# Altium footprint library nec-lqfp100-pack.PCBLIB: 1 footprints
Each footprint in its own frame and in the unit in brackets; x right, y up, seen from the top. Pads: shape width x height; smd on the part's side, far side on the other; paste and mask are expansions set on the pad; w line width, h text height; cw(c..) or ccw(c..) is an arc to the next point about the centre after c.
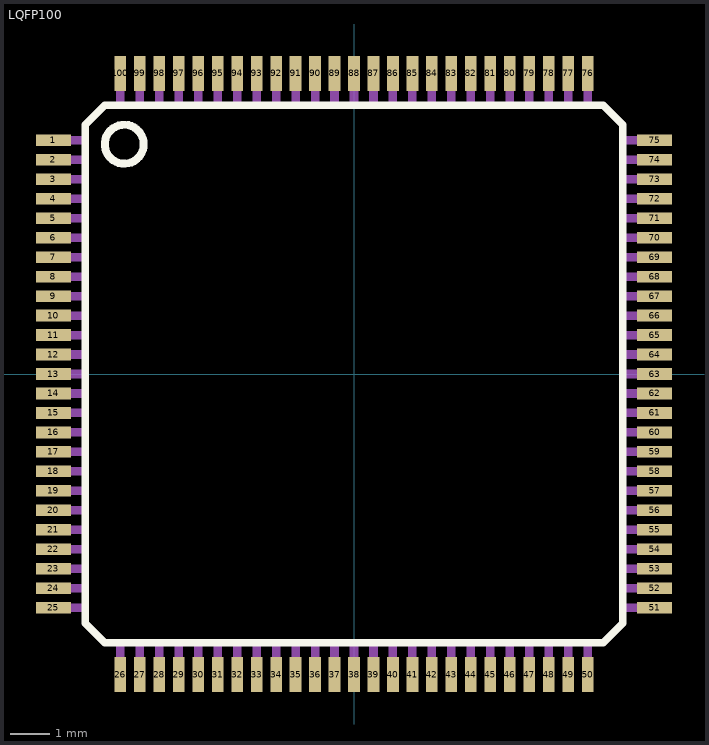
[diagram p0: the footprint, top view; thin cyan lines are the x and y axes]

## LQFP100 [mm]
pads (100):
  rect 0.9x0.3 smd: 1(-7.72,6) 2(-7.72,5.5) 3(-7.72,5) 4(-7.72,4.5) 5(-7.72,4) 6(-7.72,3.5) 7(-7.72,3) 8(-7.72,2.5) 9(-7.72,2) 10(-7.72,1.5) 11(-7.72,1) 12(-7.72,0.5) 13(-7.72,0) 14(-7.72,-0.5) 15(-7.72,-1) 16(-7.72,-1.5) 17(-7.72,-2) 18(-7.72,-2.5) 19(-7.72,-3) 20(-7.72,-3.5) 21(-7.72,-4) 22(-7.72,-4.5) 23(-7.72,-5) 24(-7.72,-5.5) 25(-7.72,-6) 51(7.72,-6) 52(7.72,-5.5) 53(7.72,-5) 54(7.72,-4.5) 55(7.72,-4) 56(7.72,-3.5) 57(7.72,-3) 58(7.72,-2.5) 59(7.72,-2) 60(7.72,-1.5) 61(7.72,-1) 62(7.72,-0.5) 63(7.72,0) 64(7.72,0.5) 65(7.72,1) 66(7.72,1.5) 67(7.72,2) 68(7.72,2.5) 69(7.72,3) 70(7.72,3.5) 71(7.72,4) 72(7.72,4.5) 73(7.72,5) 74(7.72,5.5) 75(7.72,6)
  rect 0.3x0.9 smd: 26(-6,-7.72) 27(-5.5,-7.72) 28(-5,-7.72) 29(-4.5,-7.72) 30(-4,-7.72) 31(-3.5,-7.72) 32(-3,-7.72) 33(-2.5,-7.72) 34(-2,-7.72) 35(-1.5,-7.72) 36(-1,-7.72) 37(-0.5,-7.72) 38(0,-7.72) 39(0.5,-7.72) 40(1,-7.72) 41(1.5,-7.72) 42(2,-7.72) 43(2.5,-7.72) 44(3,-7.72) 45(3.5,-7.72) 46(4,-7.72) 47(4.5,-7.72) 48(5,-7.72) 49(5.5,-7.72) 50(6,-7.72) 76(6,7.72) 77(5.5,7.72) 78(5,7.72) 79(4.5,7.72) 80(4,7.72) 81(3.5,7.72) 82(3,7.72) 83(2.5,7.72) 84(2,7.72) 85(1.5,7.72) 86(1,7.72) 87(0.5,7.72) 88(0,7.72) 89(-0.5,7.72) 90(-1,7.72) 91(-1.5,7.72) 92(-2,7.72) 93(-2.5,7.72) 94(-3,7.72) 95(-3.5,7.72) 96(-4,7.72) 97(-4.5,7.72) 98(-5,7.72) 99(-5.5,7.72) 100(-6,7.72)
Top Overlay:
  circle w0.203: c-5.9,5.9 r0.5
  lines w0.203: -6.9,-6.4 -6.9,6.4 -6.4,6.9 6.4,6.9 6.9,6.4 6.9,-6.4 6.4,-6.9 -6.4,-6.9 -6.9,-6.4
Mechanical 16:
  rectangle: -8.03,5.89 -6.93,6.11
  rectangle: -8.03,5.39 -6.93,5.61
  rectangle: -8.03,4.89 -6.93,5.11
  rectangle: -8.03,4.39 -6.93,4.61
  rectangle: -8.03,3.89 -6.93,4.11
  rectangle: -8.03,3.39 -6.93,3.61
  rectangle: -8.03,2.89 -6.93,3.11
  rectangle: -8.03,2.39 -6.93,2.61
  rectangle: -8.03,1.89 -6.93,2.11
  rectangle: -8.03,1.39 -6.93,1.61
  rectangle: -8.03,0.89 -6.93,1.11
  rectangle: -8.03,0.39 -6.93,0.61
  rectangle: -8.03,-0.11 -6.93,0.11
  rectangle: -8.03,-0.61 -6.93,-0.39
  rectangle: -8.03,-1.11 -6.93,-0.89
  rectangle: -8.03,-1.61 -6.93,-1.39
  rectangle: -8.03,-2.11 -6.93,-1.89
  rectangle: -8.03,-2.61 -6.93,-2.39
  rectangle: -8.03,-3.11 -6.93,-2.89
  rectangle: -8.03,-3.61 -6.93,-3.39
  rectangle: -8.03,-4.11 -6.93,-3.89
  rectangle: -8.03,-4.61 -6.93,-4.39
  rectangle: -8.03,-5.11 -6.93,-4.89
  rectangle: -8.03,-5.61 -6.93,-5.39
  rectangle: -8.03,-6.11 -6.93,-5.89
  rectangle: -6.11,-8.03 -5.89,-6.93
  rectangle: -5.61,-8.03 -5.39,-6.93
  rectangle: -5.11,-8.03 -4.89,-6.93
  rectangle: -4.61,-8.03 -4.39,-6.93
  rectangle: -4.11,-8.03 -3.89,-6.93
  rectangle: -3.61,-8.03 -3.39,-6.93
  rectangle: -3.11,-8.03 -2.89,-6.93
  rectangle: -2.61,-8.03 -2.39,-6.93
  rectangle: -2.11,-8.03 -1.89,-6.93
  rectangle: -1.61,-8.03 -1.39,-6.93
  rectangle: -1.11,-8.03 -0.89,-6.93
  rectangle: -0.61,-8.03 -0.39,-6.93
  rectangle: -0.11,-8.03 0.11,-6.93
  rectangle: 0.39,-8.03 0.61,-6.93
  rectangle: 0.89,-8.03 1.11,-6.93
  rectangle: 1.39,-8.03 1.61,-6.93
  rectangle: 1.89,-8.03 2.11,-6.93
  rectangle: 2.39,-8.03 2.61,-6.93
  rectangle: 2.89,-8.03 3.11,-6.93
  rectangle: 3.39,-8.03 3.61,-6.93
  rectangle: 3.89,-8.03 4.11,-6.93
  rectangle: 4.39,-8.03 4.61,-6.93
  rectangle: 4.89,-8.03 5.11,-6.93
  rectangle: 5.39,-8.03 5.61,-6.93
  rectangle: 5.89,-8.03 6.11,-6.93
  rectangle: 6.93,-6.11 8.03,-5.89
  rectangle: 6.93,-5.61 8.03,-5.39
  rectangle: 6.93,-5.11 8.03,-4.89
  rectangle: 6.93,-4.61 8.03,-4.39
  rectangle: 6.93,-4.11 8.03,-3.89
  rectangle: 6.93,-3.61 8.03,-3.39
  rectangle: 6.93,-3.11 8.03,-2.89
  rectangle: 6.93,-2.61 8.03,-2.39
  rectangle: 6.93,-2.11 8.03,-1.89
  rectangle: 6.93,-1.61 8.03,-1.39
  rectangle: 6.93,-1.11 8.03,-0.89
  rectangle: 6.93,-0.61 8.03,-0.39
  rectangle: 6.93,-0.11 8.03,0.11
  rectangle: 6.93,0.39 8.03,0.61
  rectangle: 6.93,0.89 8.03,1.11
  rectangle: 6.93,1.39 8.03,1.61
  rectangle: 6.93,1.89 8.03,2.11
  rectangle: 6.93,2.39 8.03,2.61
  rectangle: 6.93,2.89 8.03,3.11
  rectangle: 6.93,3.39 8.03,3.61
  rectangle: 6.93,3.89 8.03,4.11
  rectangle: 6.93,4.39 8.03,4.61
  rectangle: 6.93,4.89 8.03,5.11
  rectangle: 6.93,5.39 8.03,5.61
  rectangle: 6.93,5.89 8.03,6.11
  rectangle: 5.89,6.93 6.11,8.03
  rectangle: 5.39,6.93 5.61,8.03
  rectangle: 4.89,6.93 5.11,8.03
  rectangle: 4.39,6.93 4.61,8.03
  rectangle: 3.89,6.93 4.11,8.03
  rectangle: 3.39,6.93 3.61,8.03
  rectangle: 2.89,6.93 3.11,8.03
  rectangle: 2.39,6.93 2.61,8.03
  rectangle: 1.89,6.93 2.11,8.03
  rectangle: 1.39,6.93 1.61,8.03
  rectangle: 0.89,6.93 1.11,8.03
  rectangle: 0.39,6.93 0.61,8.03
  rectangle: -0.11,6.93 0.11,8.03
  rectangle: -0.61,6.93 -0.39,8.03
  rectangle: -1.11,6.93 -0.89,8.03
  rectangle: -1.61,6.93 -1.39,8.03
  rectangle: -2.11,6.93 -1.89,8.03
  rectangle: -2.61,6.93 -2.39,8.03
  rectangle: -3.11,6.93 -2.89,8.03
  rectangle: -3.61,6.93 -3.39,8.03
  rectangle: -4.11,6.93 -3.89,8.03
  rectangle: -4.61,6.93 -4.39,8.03
  rectangle: -5.11,6.93 -4.89,8.03
  rectangle: -5.61,6.93 -5.39,8.03
  rectangle: -6.11,6.93 -5.89,8.03